# EAGLE library part MC34064D-5R2G (library ON_Semiconductor_By_element14_Batch_1)
Undervoltage Sensing Circuit
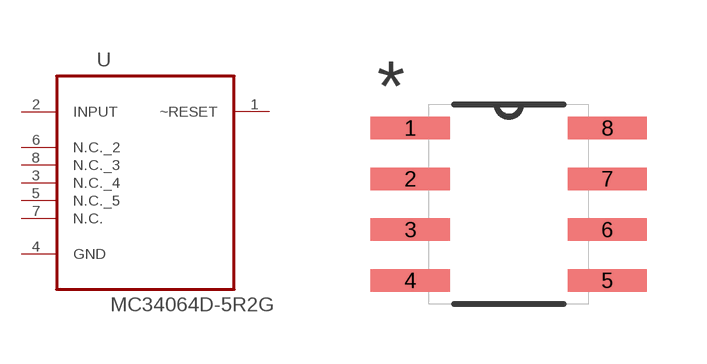
[diagram p391: symbol with the pads of SOIC127P600X175-8N; footprint SOIC127P600X175-8N]

Designator prefix U

## MC34064D-5R2G (MPN: MC34064D-5R2G; OC_FARNELL: 1364616; OC_NEWARK: 45J1210; PACKAGE: SOIC-8; SUPPLIER: ON Semiconductor)  [SOIC127P600X175-8N]
1  ~RESET  out
2  INPUT  pwr
3  N.C._4  nc
4  GND  pas
5  N.C._5  nc
6  N.C._2  nc
7  N.C.  nc
8  N.C._3  nc

## Footprint SOIC127P600X175-8N (pad centres in mm)
smd 1.981 x 0.559: 1 -2.464,1.905; 2 -2.464,0.635; 3 -2.464,-0.635; 4 -2.464,-1.905; 5 2.464,-1.905; 6 2.464,-0.635; 7 2.464,0.635; 8 2.464,1.905